# EAGLE library part RJ45-RJHSE-5080-02 (library AIC_Custom)
Amphenol RJHSE-x080 RJ45 PCB Jack (2-Port) RJ45 8-pin connection PCB PTH connector, 2-Port 90 degree package 3 Hole variant has extra hole to allow a single port socket to fitted to position A if position B is not required.
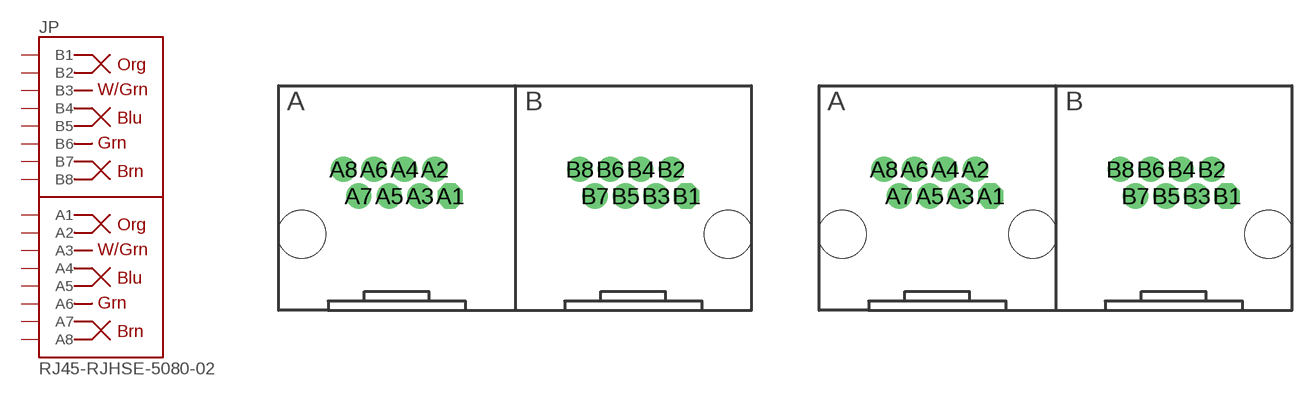
[diagram p8: symbol with the pads of RJ45-RJHSE-5080-02; footprints RJ45-RJHSE-5080-02, RJ45-RJHSE-5080-02-3HOLE]

Designator prefix JP

## RJ45-RJHSE-5080-022HOLE  [RJ45-RJHSE-5080-02]
A1  A1
A2  A2
A3  A3
A4  A4
A5  A5
A6  A6
A7  A7
A8  A8
B1  B1
B2  B2
B3  B3
B4  B4
B5  B5
B6  B6
B7  B7
B8  B8

## RJ45-RJHSE-5080-023HOLE  [RJ45-RJHSE-5080-02-3HOLE]
Pads as for RJ45-RJHSE-5080-02

## Footprint RJ45-RJHSE-5080-02 (pad centres in mm)
Amphenol RJHSE-5080 RJ45 90 Degree PCB Socket (2-Port) Front edge is 0.2" from origin.
drill 0.9 pad 1.676 octagon: A1 -4.318,2.54; B1 11.43,2.54
drill 0.9 pad 1.676: A2 -5.334,4.318; A3 -6.35,2.54; A4 -7.366,4.318; A5 -8.382,2.54; A6 -9.398,4.318; A7 -10.414,2.54; A8 -11.43,4.318; B2 10.414,4.318; B3 9.398,2.54; B4 8.382,4.318; B5 7.366,2.54; B6 6.35,4.318; B7 5.334,2.54; B8 4.318,4.318
hole 3.2 at -14.224,0
hole 3.2 at 14.224,0

## Footprint RJ45-RJHSE-5080-02-3HOLE (pad centres in mm)
Amphenol RJHSE-5080 RJ45 90 Degree PCB Socket (2-Port) With extra hole to allow a single port socket to be fitted to position A. Front edge is 0.2" from origin.
drill 0.9 pad 1.676 octagon: A1 -4.318,2.54; B1 11.43,2.54
drill 0.9 pad 1.676: A2 -5.334,4.318; A3 -6.35,2.54; A4 -7.366,4.318; A5 -8.382,2.54; A6 -9.398,4.318; A7 -10.414,2.54; A8 -11.43,4.318; B2 10.414,4.318; B3 9.398,2.54; B4 8.382,4.318; B5 7.366,2.54; B6 6.35,4.318; B7 5.334,2.54; B8 4.318,4.318
hole 3.2 at -14.224,0
hole 3.2 at 14.224,0
hole 3.2 at -1.524,0